# EAGLE library part SARA-R4 (library ublox)
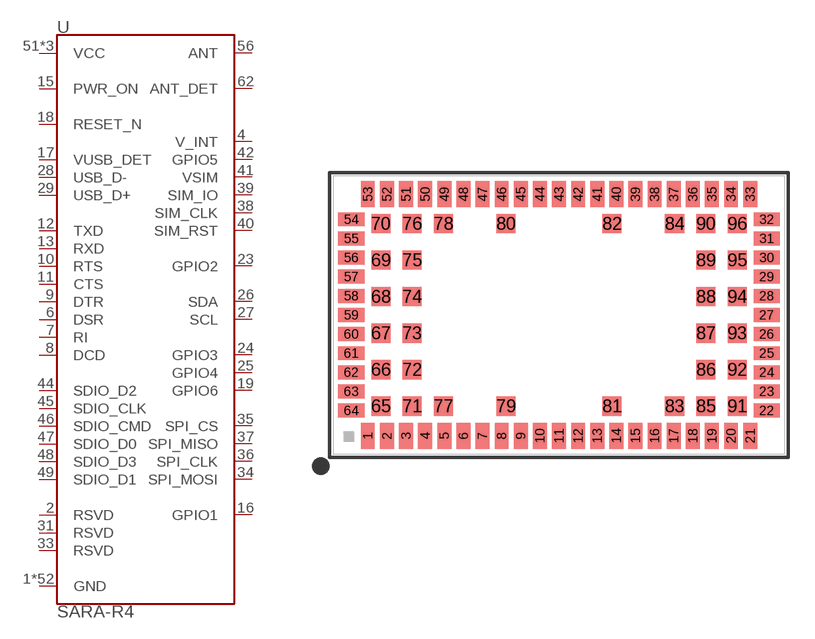
[diagram p0: symbol with the pads of SARA-LGA; footprint SARA-LGA]

Designator prefix U

## SARA-R4 (PROD_ID: IC-14085)  [SARA-LGA]
1  GND
2  RSVD
3  GND
4  V_INT
5  GND
6  DSR
7  RI
8  DCD
9  DTR
10  RTS
11  CTS
12  TXD
13  RXD
14  GND
15  PWR_ON
16  GPIO1
17  VUSB_DET
18  RESET_N
19  GPIO6
20  GND
21  GND
22  GND
23  GPIO2
24  GPIO3
25  GPIO4
26  SDA
27  SCL
28  USB_D-
29  USB_D+
30  GND
31  RSVD
32  GND
33  RSVD
34  SPI_MOSI
35  SPI_CS
36  SPI_CLK
37  SPI_MISO
38  SIM_CLK
39  SIM_IO
40  SIM_RST
41  VSIM
42  GPIO5
43  GND
44  SDIO_D2
45  SDIO_CLK
46  SDIO_CMD
47  SDIO_D0
48  SDIO_D3
49  SDIO_D1
50  GND
51  VCC
52  VCC
53  VCC
54  GND
55  GND
56  ANT
57  GND
58  GND
59  GND
60  GND
61  GND
62  ANT_DET
63  GND
64  GND
65  GND
66  GND
67  GND
68  GND
69  GND
70  GND
71  GND
72  GND
73  GND
74  GND
75  GND
76  GND
77  GND
78  GND
79  GND
80  GND
81  GND
82  GND
83  GND
84  GND
85  GND
86  GND
87  GND
88  GND
89  GND
90  GND
91  GND
92  GND
93  GND
94  GND
95  GND
96  GND

## Footprint SARA-LGA (pad centres in mm)
ublox SARA LGA form factor Miniature cellular modem package. Common form factor for many ublox cellular modules, including SARA-R4 and SARA-U2 series'. Dimensions: 26.0 x 16.0 mm Pins: 96 Pitch: 1.1mm
smd 0.8 x 1.5: 1 -11,-6.95; 2 -9.9,-6.95; 3 -8.8,-6.95; 4 -7.7,-6.95; 5 -6.6,-6.95; 6 -5.5,-6.95; 7 -4.4,-6.95; 8 -3.3,-6.95; 9 -2.2,-6.95; 10 -1.1,-6.95; 11 0,-6.95; 12 1.1,-6.95; 13 2.2,-6.95; 14 3.3,-6.95; 15 4.4,-6.95; 16 5.5,-6.95; 17 6.6,-6.95; 18 7.7,-6.95; 19 8.8,-6.95; 20 9.9,-6.95; 21 11,-6.95; 33 11,6.95; 34 9.9,6.95; 35 8.8,6.95; 36 7.7,6.95; 37 6.6,6.95; 38 5.5,6.95; 39 4.4,6.95; 40 3.3,6.95; 41 2.2,6.95; 42 1.1,6.95; 43 0,6.95; 44 -1.1,6.95; 45 -2.2,6.95; 46 -3.3,6.95; 47 -4.4,6.95; 48 -5.5,6.95; 49 -6.6,6.95; 50 -7.7,6.95; 51 -8.8,6.95; 52 -9.9,6.95; 53 -11,6.95
smd 1.5 x 0.8: 22 11.95,-5.5; 23 11.95,-4.4; 24 11.95,-3.3; 25 11.95,-2.2; 26 11.95,-1.1; 27 11.95,0; 28 11.95,1.1; 29 11.95,2.2; 30 11.95,3.3; 31 11.95,4.4; 32 11.95,5.5; 54 -11.95,5.5; 55 -11.95,4.4; 56 -11.95,3.3; 57 -11.95,2.2; 58 -11.95,1.1; 59 -11.95,0; 60 -11.95,-1.1; 61 -11.95,-2.2; 62 -11.95,-3.3; 63 -11.95,-4.4; 64 -11.95,-5.5
smd 1.1 x 1.1: 65 -10.25,-5.25; 66 -10.25,-3.15; 67 -10.25,-1.05; 68 -10.25,1.05; 69 -10.25,3.15; 70 -10.25,5.25; 71 -8.45,-5.25; 72 -8.45,-3.15; 73 -8.45,-1.05; 74 -8.45,1.05; 75 -8.45,3.15; 76 -8.45,5.25; 77 -6.65,-5.25; 78 -6.65,5.25; 79 -3.05,-5.25; 80 -3.05,5.25; 81 3.05,-5.25; 82 3.05,5.25; 83 6.65,-5.25; 84 6.65,5.25; 85 8.45,-5.25; 86 8.45,-3.15; 87 8.45,-1.05; 88 8.45,1.05; 89 8.45,3.15; 90 8.45,5.25; 91 10.25,-5.25; 92 10.25,-3.15; 93 10.25,-1.05; 94 10.25,1.05; 95 10.25,3.15; 96 10.25,5.25